# EAGLE library part ADS7844 (library NASA_LIB)
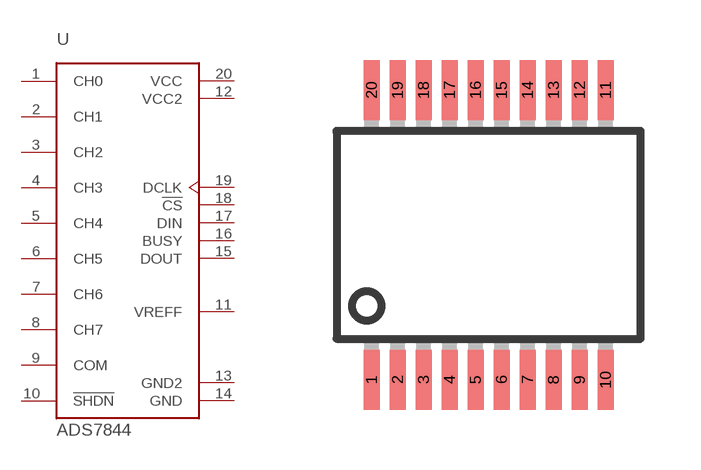
[diagram p21: symbol with the pads of SSOP-20; footprint SSOP-20]

Designator prefix -

## ADS7844  [SSOP-20]
1  CH0
2  CH1
3  CH2
4  CH3
5  CH4
6  CH5
7  CH6
8  CH7
9  COM
10  !SHDN
11  VREFF
12  VCC2
13  GND2
14  GND
15  DOUT
16  BUSY
17  DIN
18  !CS
19  DCLK
20  VCC

## Footprint SSOP-20 (pad centres in mm)
smd 0.4 x 1.5: 1 -2.925,-3.625; 2 -2.275,-3.625; 3 -1.625,-3.625; 4 -0.975,-3.625; 5 -0.325,-3.625; 6 0.325,-3.625; 7 0.975,-3.625; 8 1.625,-3.625; 9 2.275,-3.625; 10 2.925,-3.625; 11 2.925,3.625; 12 2.275,3.625; 13 1.625,3.625; 14 0.975,3.625; 15 0.325,3.625; 16 -0.325,3.625; 17 -0.975,3.625; 18 -1.625,3.625; 19 -2.275,3.625; 20 -2.925,3.625